# Altium schematic symbol library SDCard.SchLib: 1 symbol
Pins are listed as number, name and electrical type; pins without a type are passive.

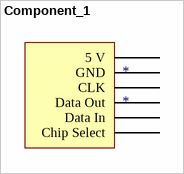
[diagram p0: symbol Component_1]

## Component_1
designator *
pins: 1 5 V, 2 GND, RXI CLK, RXI Data Out, RXI Data In, RXI Chip Select